# Altium schematic symbol library SCH - DRIVER - LED - TI TLC5925_DW_24.SchLib: 1 symbol
Pins are listed as number, name and electrical type; pins without a type are passive.

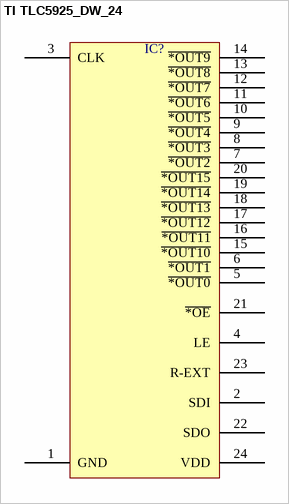
[diagram p0: symbol TI TLC5925_DW_24]

## TI TLC5925_DW_24
designator IC?  (value not drawn)
pins: 1 GND, 2 SDI, 3 CLK, 4 LE, 5 ~{*OUT0}, 6 ~{*OUT1}, 7 ~{*OUT2}, 8 ~{*OUT3}, 9 ~{*OUT4}, 10 ~{*OUT5}, 11 ~{*OUT6}, 12 ~{*OUT7}, 13 ~{*OUT8}, 14 ~{*OUT9}, 15 ~{*OUT10}, 16 ~{*OUT11}, 17 ~{*OUT12}, 18 ~{*OUT13}, 19 ~{*OUT14}, 20 ~{*OUT15}, 21 ~{*OE}, 22 SDO, 23 R-EXT, 24 VDD